# Altium schematic symbol library Schlib1.SchLib: 7 symbols
Pins are listed as number, name and electrical type; pins without a type are passive.

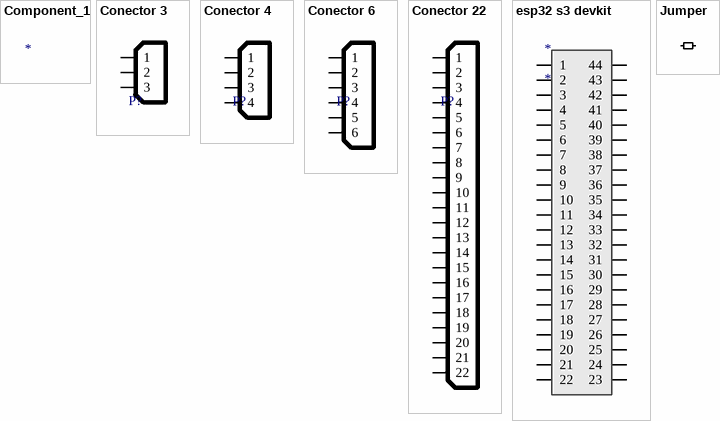
[diagram p0: symbols Component_1 to Jumper]

## Component_1
designator *  (value not drawn)

## Conector 3
designator P?
pins: 1, 2, 3

## Conector 4
designator P?
pins: 1, 2, 3, 4

## Conector 6
designator P?
pins: 1, 2, 3, 4, 5, 6

## Conector 22
designator P?
pins: 1, 2, 3, 4, 5, 6, 7, 8, 9, 10, 11, 12, 13, 14, 15, 16, 17, 18, 19, 20, 21, 22

## esp32 s3 devkit
designator *
footprint PCBComponent_1 - duplicate
pins: 1, 2, 3, 4, 5, 6, 7, 8, 9, 10, 11, 12, 13, 14, 15, 16, 17, 18, 19, 20, 21, 22, 23, 24, 25, 26, 27, 28, 29, 30, 31, 32, 33, 34, 35, 36, 37, 38, 39, 40, 41, 42, 43, 44

## Jumper
designator W?  (value not drawn)
footprint Jumper Mid
pins: 1, 2